# Altium footprint library footprints.PCBLIB: 172 footprints (part 5 of 11)
Each footprint in its own frame and in the unit in brackets; x right, y up, seen from the top. Pads: shape width x height; smd on the part's side, far side on the other; paste and mask are expansions set on the pad; w line width, h text height; cw(c..) or ccw(c..) is an arc to the next point about the centre after c.
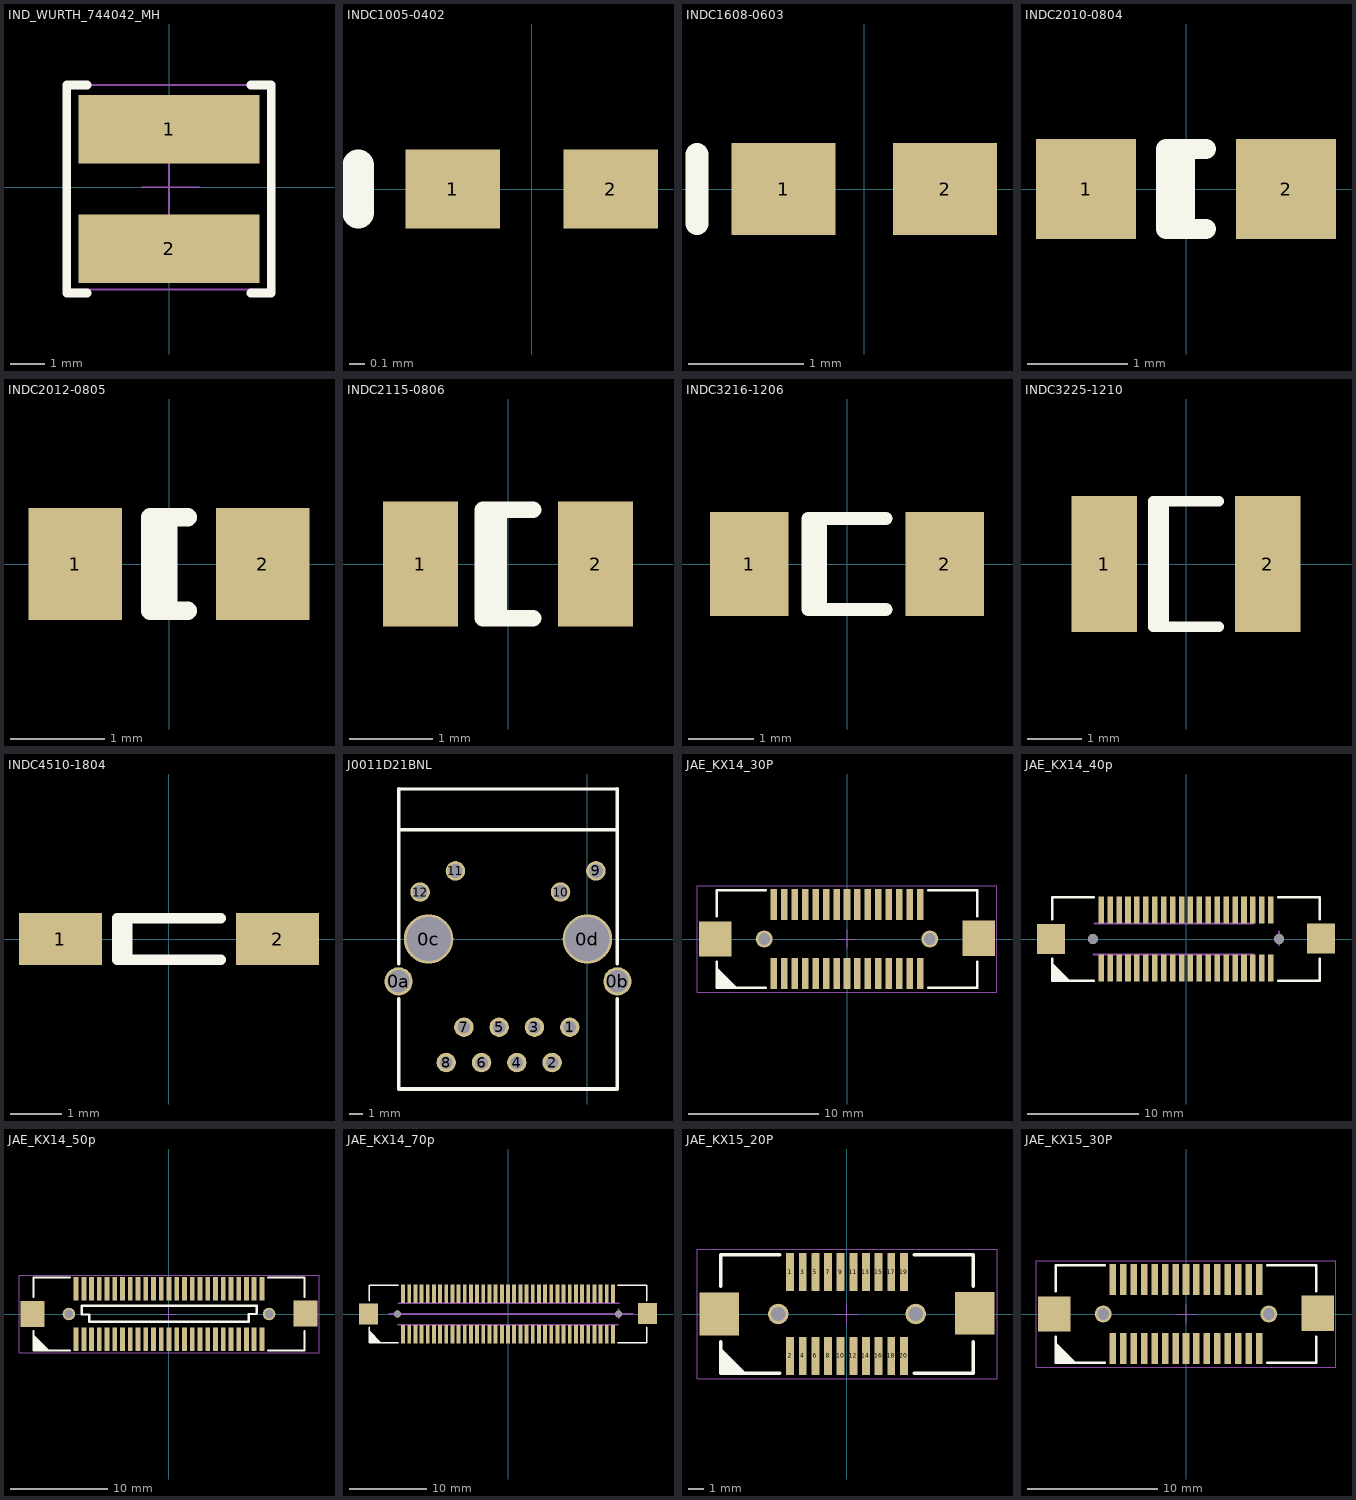
[diagram p4: the footprints below, top view; thin cyan lines are the x and y axes]

## IND_WURTH_744042_MH [mm]
height 2
pads (2):
  rect 5.3x2 smd: 1(0,1.7) 2(0,-1.8)
Top Overlay:
  lines w0.254: -3,2.6 -3,3 -2.4,3 ; -3,2.7 -3,-3.1 -2.4,-3.1 ; 2.4,-3.1 3,-3.1 3,-2.7 ; 2.4,3 3,3 3,-2.8
Mechanical 15:
  lines w0.05: -0.8,0 0.6,0 ; 0,-0.9 0,0.9 ; 0.5,0 0.9,0 ; -3,-3 3,-3 3,3 -3,3 -3,-3

## INDC1005-0402 [mm] "Chip Inductor; Body 1 x 0.5 mm (LxW typ)"
height 0.55
pads (2):
  rect 0.6x0.5 smd: 1(-0.5,0) 2(0.5,0)
Top Overlay:
  lines w0.2: -1.1,-0.15 -1.1,0.15

## INDC1608-0603 [mm] "Chip Inductor; Body 1.6 x 0.8 mm (LxW typ)"
height 0.71
pads (2):
  rect 0.9x0.8 smd: 1(-0.7,0) 2(0.7,0)
Top Overlay:
  lines w0.2: -1.45,-0.3 -1.45,0.3

## INDC2010-0804 [mm] "Chip Inductor; Body 2.0 x 1.2 mm (LxW typ)"
height 1.2
pads (2):
  rect 1x1 smd: 1(-1,0) 2(1,0)
Top Overlay:
  lines w0.2: -0.01,-0.4 -0.01,0.4 ; 0.2,-0.4 -0.2,-0.4 -0.2,0.4 0.2,0.4

## INDC2012-0805 [mm] "Chip Inductor; Body 2 x 1.2 mm (LxW typ)"
height 1.1
pads (2):
  rect 1x1.2 smd: 1(-1,0) 2(1,0)
Top Overlay:
  lines w0.2: -0.01,-0.5 -0.01,0.5 ; 0.2,-0.5 -0.2,-0.5 -0.2,0.5 0.2,0.5

## INDC2115-0806 [mm] "Chip Inductor; Body 2.1 x 1.5 mm (LxW typ)"
height 1.04
pads (2):
  rect 0.9x1.5 smd: 1(-1.05,0) 2(1.05,0)
Top Overlay:
  lines w0.2: -0.11,-0.65 -0.11,0.65 ; 0.3,-0.65 -0.3,-0.65 -0.3,0.65 0.3,0.65

## INDC3216-1206 [mm] "Chip Inductor; Body 3.2 x 1.6 mm (LxW typ)"
height 1.3
pads (2):
  rect 1.2x1.6 smd: 1(-1.5,0) 2(1.5,0)
Top Overlay:
  lines w0.2: -0.41,-0.7 -0.41,0.7 ; 0.6,-0.7 -0.6,-0.7 -0.6,0.7 0.6,0.7

## INDC3225-1210 [mm] "Chip Inductor; Body 3.2 x 2.5 mm (LxW typ)"
height 1.5
pads (2):
  rect 1.2x2.5 smd: 1(-1.5,0) 2(1.5,0)
Top Overlay:
  lines w0.2: -0.41,-1.15 -0.41,1.15 ; 0.6,-1.15 -0.6,-1.15 -0.6,1.15 0.6,1.15

## INDC4510-1804 [mm] "Chip Inductor; Body 4.5 x 6.4 mm (LxW typ)"
height 1.9
pads (2):
  rect 1.6x1 smd: 1(-2.1,0) 2(2.1,0)
Top Overlay:
  lines w0.2: -0.81,-0.4 -0.81,0.4 ; 1,-0.4 -1,-0.4 -1,0.4 1,0.4

## J0011D21BNL [mm] "ethernet trafo with magnetics and LEDs"
height 17.1
pads (16):
  round 2.032 hole 1.6: 0a(-13.589,-3.048) 0b(2.159,-3.048)
  round 3.556 hole 3.2: 0c(-11.43,0) 0d(0,0)
  round 1.4 hole 0.9: 1(-1.27,-6.35) 2(-2.54,-8.89) 3(-3.81,-6.35) 4(-5.08,-8.89) 5(-6.35,-6.35) 6(-7.62,-8.89) 7(-8.89,-6.35) 8(-10.16,-8.89)
  round 1.4 hole 1: 9(0.61,4.902) 10(-1.93,3.378) 11(-9.5,4.902) 12(-12.04,3.378)
Top Overlay:
  lines w0.25: -13.589,-1.778 -13.589,5.08 ; -13.589,10.795 2.159,10.795 ; 2.159,-1.778 2.159,5.08
  lines w0.254: -13.589,-4.318 -13.589,-10.795 2.159,-10.795 2.159,-4.318 ; -13.589,5.08 -13.589,10.795 -13.589,7.874 2.159,7.874 ; 2.159,5.08 2.159,10.795

## JAE_KX14_30P [mm]
pads (34):
  rect 0.5x2.4 smd: 1(-5.6,-2.65) 2(-5.6,2.65) 3(-4.8,-2.65) 4(-4.8,2.65) 5(-4,-2.65) 6(-4,2.65) 7(-3.2,-2.65) 8(-3.2,2.65) 9(-2.4,-2.65) 10(-2.4,2.65) 11(-1.6,-2.65) 12(-1.6,2.65) 13(-0.8,-2.65) 14(-0.8,2.65) 15(0,-2.65) 16(0,2.65) 17(0.8,-2.65) 18(0.8,2.65) 19(1.6,-2.65) 20(1.6,2.65) 21(2.4,-2.65) 22(2.4,2.65) 23(3.2,-2.65) 24(3.2,2.65) 25(4,-2.65) 26(4,2.65) 27(4.8,-2.65) 28(4.8,2.65) 29(5.6,-2.65) 30(5.6,2.65)
  rect 2.5x2.7 smd: ""(-10.1,0) ""(10.1,0.05)
  round 1.3 hole 0.9: ""(-6.35,0) ""(6.35,0)
Top Overlay:
  region: -10,-2.25 -10,-3.75 -8.5,-3.75
  lines w0.2: -10,-2.25 -8.5,-3.75 ; -10,-1.75 -10,-3.75 -6.25,-3.75 ; -10,1.75 -10,3.75 -6.25,3.75 ; 6.25,-3.75 10,-3.75 10,-1.75 ; 6.25,3.75 10,3.75 10,1.75
Mechanical 15:
  lines w0.05: -6.7,-4.1 11.5,-4.1 11.5,4.1 -11.5,4.1 -11.5,-4.1 -6.5,-4.1 ; -0.8,0 0.7,0 ; 0,-0.7 0,0.7

## JAE_KX14_40p [mm]
pads (44):
  rect 0.5x2.4 smd: 1(-7.6,-2.6) 2(-7.6,2.6) 3(-6.8,-2.6) 4(-6.8,2.6) 5(-6,-2.6) 6(-6,2.6) 7(-5.2,-2.6) 8(-5.2,2.6) 9(-4.4,-2.6) 10(-4.4,2.6) 11(-3.6,-2.6) 12(-3.6,2.6) 13(-2.8,-2.6) 14(-2.8,2.6) 15(-2,-2.6) 16(-2,2.6) 17(-1.2,-2.6) 18(-1.2,2.6) 19(-0.4,-2.6) 20(-0.4,2.6) 21(0.4,-2.6) 22(0.4,2.6) 23(1.2,-2.6) 24(1.2,2.6) 25(2,-2.6) 26(2,2.6) 27(2.8,-2.6) 28(2.8,2.6) 29(3.6,-2.6) 30(3.6,2.6) 31(4.4,-2.6) 32(4.4,2.6) 33(5.2,-2.6) 34(5.2,2.6) 35(6,-2.6) 36(6,2.6) 37(6.8,-2.6) 38(6.8,2.6) 39(7.6,-2.6) 40(7.6,2.6)
  rect 2.5x2.7 smd: ""(-12.1,0) ""(12.1,0.05)
  round 0.9 hole 0.9: ""(-8.35,0) ""(8.35,0)
Top Overlay:
  region: -12,-2.25 -12,-3.75 -10.5,-3.75
  lines w0.2: -12,-2.25 -10.5,-3.75 ; -12,-1.75 -12,-3.75 -8.25,-3.75 ; -12,1.75 -12,3.75 -8.25,3.75 ; 8.25,-3.75 12,-3.75 12,-1.75 ; 8.25,3.75 12,3.75 12,1.75
Mechanical 15:
  lines w0.2: -8.35,-0.35 -8.35,0.35 ; -8.3,-1.4 6,-1.4 ; -8.2,1.4 6,1.4 ; 8.35,-0.55 8.35,0.65

## JAE_KX14_50p [mm]
pads (54):
  rect 0.5x2.4 smd: 1(-9.6,-2.6) 2(-9.6,2.6) 3(-8.8,-2.6) 4(-8.8,2.6) 5(-8,-2.6) 6(-8,2.6) 7(-7.2,-2.6) 8(-7.2,2.6) 9(-6.4,-2.6) 10(-6.4,2.6) 11(-5.6,-2.6) 12(-5.6,2.6) 13(-4.8,-2.6) 14(-4.8,2.6) 15(-4,-2.6) 16(-4,2.6) 17(-3.2,-2.6) 18(-3.2,2.6) 19(-2.4,-2.6) 20(-2.4,2.6) 21(-1.6,-2.6) 22(-1.6,2.6) 23(-0.8,-2.6) 24(-0.8,2.6) 25(0,-2.6) 26(0,2.6) 27(0.8,-2.6) 28(0.8,2.6) 29(1.6,-2.6) 30(1.6,2.6) 31(2.4,-2.6) 32(2.4,2.6) 33(3.2,-2.6) 34(3.2,2.6) 35(4,-2.6) 36(4,2.6) 37(4.8,-2.6) 38(4.8,2.6) 39(5.6,-2.6) 40(5.6,2.6) 41(6.4,-2.6) 42(6.4,2.6) 43(7.2,-2.6) 44(7.2,2.6) 45(8,-2.6) 46(8,2.6) 47(8.8,-2.6) 48(8.8,2.6) 49(9.6,-2.6) 50(9.6,2.6)
  rect 2.5x2.7 smd: ""(-14.1,0) ""(14.1,0.05)
  round 1.3 hole 0.9: ""(-10.35,0) ""(10.35,0)
Top Overlay:
  region: -14,-2.25 -14,-3.75 -12.5,-3.75
  lines w0.2: -14,-2.25 -12.5,-3.75 ; -14,-1.75 -14,-3.75 -10.25,-3.75 ; -14,1.75 -14,3.75 -10.25,3.75 ; 10.25,-3.75 14,-3.75 14,-1.75 ; 10.25,3.75 14,3.75 14,1.75
  lines w0.254: -9,-0.05 -9,0.85 9.05,0.85 9.05,0.05 9,0 8.25,0 8.25,-0.8 -8.25,-0.8 -8.25,-0.05 -9,-0.05
Mechanical 15:
  lines w0.05: -0.8,0 0.8,0 ; 0,-0.7 0,0.7 ; -15.5,-4 15.5,-4 15.5,4 -15.5,4 -15.5,3.9 -15.5,-4

## JAE_KX14_70p [mm]
pads (74):
  rect 0.5x2.4 smd: 1(-13.6,-2.6) 2(-13.6,2.6) 3(-12.8,-2.6) 4(-12.8,2.6) 5(-12,-2.6) 6(-12,2.6) 7(-11.2,-2.6) 8(-11.2,2.6) 9(-10.4,-2.6) 10(-10.4,2.6) 11(-9.6,-2.6) 12(-9.6,2.6) 13(-8.8,-2.6) 14(-8.8,2.6) 15(-8,-2.6) 16(-8,2.6) 17(-7.2,-2.6) 18(-7.2,2.6) 19(-6.4,-2.6) 20(-6.4,2.6) 21(-5.6,-2.6) 22(-5.6,2.6) 23(-4.8,-2.6) 24(-4.8,2.6) 25(-4,-2.6) 26(-4,2.6) 27(-3.2,-2.6) 28(-3.2,2.6) 29(-2.4,-2.6) 30(-2.4,2.6) 31(-1.6,-2.6) 32(-1.6,2.6) 33(-0.8,-2.6) 34(-0.8,2.6) 35(0,-2.6) 36(0,2.6) 37(0.8,-2.6) 38(0.8,2.6) 39(1.6,-2.6) 40(1.6,2.6) 41(2.4,-2.6) 42(2.4,2.6) 43(3.2,-2.6) 44(3.2,2.6) 45(4,-2.6) 46(4,2.6) 47(4.8,-2.6) 48(4.8,2.6) 49(5.6,-2.6) 50(5.6,2.6) 51(6.4,-2.6) 52(6.4,2.6) 53(7.2,-2.6) 54(7.2,2.6) 55(8,-2.6) 56(8,2.6) 57(8.8,-2.6) 58(8.8,2.6) 59(9.6,-2.6) 60(9.6,2.6) 61(10.4,-2.6) 62(10.4,2.6) 63(11.2,-2.6) 64(11.2,2.6) 65(12,-2.6) 66(12,2.6) 67(12.8,-2.6) 68(12.8,2.6) 69(13.6,-2.6) 70(13.6,2.6)
  rect 2.5x2.7 smd: ""(-18.1,0) ""(18.1,0.05)
  round 0.9 hole 0.9: ""(-14.35,0) ""(14.35,0)
Top Overlay:
  region: -18,-2.25 -18,-3.75 -16.5,-3.75
  lines w0.2: -18,-2.25 -16.5,-3.75 ; -18,-1.75 -18,-3.75 -14.25,-3.75 ; -18,1.75 -18,3.75 -14.25,3.75 ; 14.25,-3.75 18,-3.75 18,-1.75 ; 14.25,3.75 18,3.75 18,1.75
Mechanical 15:
  lines w0.2: -15.4,0 16.2,0 ; -14.35,-0.35 -14.35,0.35 ; -14.3,-1.4 0,-1.4 14.3,-1.4 ; -14.2,1.4 0,1.4 ; -0.1,1.4 14.4,1.4 ; 14.35,-0.55 14.35,0.65

## JAE_KX15_20P [mm]
pads (24):
  rect 0.5x2.4 smd: 1(-3.6,2.65) 2(-3.6,-2.65) 3(-2.8,2.65) 4(-2.8,-2.65) 5(-2,2.65) 6(-2,-2.65) 7(-1.2,2.65) 8(-1.2,-2.65) 9(-0.4,2.65) 10(-0.4,-2.65) 11(0.4,2.65) 12(0.4,-2.65) 13(1.2,2.65) 14(1.2,-2.65) 15(2,2.65) 16(2,-2.65) 17(2.8,2.65) 18(2.8,-2.65) 19(3.6,2.65) 20(3.6,-2.65)
  rect 2.5x2.7 smd: ""(-8.1,0) ""(8.1,0.05)
  round 1.3 hole 0.9: ""(-4.35,0) ""(4.35,0)
Top Overlay:
  region: -8,-2.25 -8,-3.75 -6.5,-3.75
  lines w0.2: -8,-2.25 -6.5,-3.75 ; -8,-1.75 -8,-3.75 -4.25,-3.75 ; -8,1.75 -8,3.75 -4.25,3.75 ; 4.25,-3.75 8,-3.75 8,-1.75 ; 4.25,3.75 8,3.75 8,1.75
Mechanical 15:
  lines w0.05: -4.7,-4.1 9.5,-4.1 9.5,4.1 -9.5,4.1 -9.5,-4.1 -4.5,-4.1 ; -0.8,0 0.7,0 ; 0,-0.7 0,0.7

## JAE_KX15_30P [mm]
pads (34):
  rect 0.5x2.4 smd: 1(-5.6,2.65) 2(-5.6,-2.65) 3(-4.8,2.65) 4(-4.8,-2.65) 5(-4,2.65) 6(-4,-2.65) 7(-3.2,2.65) 8(-3.2,-2.65) 9(-2.4,2.65) 10(-2.4,-2.65) 11(-1.6,2.65) 12(-1.6,-2.65) 13(-0.8,2.65) 14(-0.8,-2.65) 15(0,2.65) 16(0,-2.65) 17(0.8,2.65) 18(0.8,-2.65) 19(1.6,2.65) 20(1.6,-2.65) 21(2.4,2.65) 22(2.4,-2.65) 23(3.2,2.65) 24(3.2,-2.65) 25(4,2.65) 26(4,-2.65) 27(4.8,2.65) 28(4.8,-2.65) 29(5.6,2.65) 30(5.6,-2.65)
  rect 2.5x2.7 smd: ""(-10.1,0) ""(10.1,0.05)
  round 1.3 hole 0.9: ""(-6.35,0) ""(6.35,0)
Top Overlay:
  region: -10,-2.25 -10,-3.75 -8.5,-3.75
  lines w0.2: -10,-2.25 -8.5,-3.75 ; -10,-1.75 -10,-3.75 -6.25,-3.75 ; -10,1.75 -10,3.75 -6.25,3.75 ; 6.25,-3.75 10,-3.75 10,-1.75 ; 6.25,3.75 10,3.75 10,1.75
Mechanical 15:
  lines w0.05: -6.7,-4.1 11.5,-4.1 11.5,4.1 -11.5,4.1 -11.5,-4.1 -6.5,-4.1 ; -0.8,0 0.7,0 ; 0,-0.7 0,0.7